# Altium schematic symbol library LPEDT_Components.SchLib: 80 symbols (part 2 of 4)
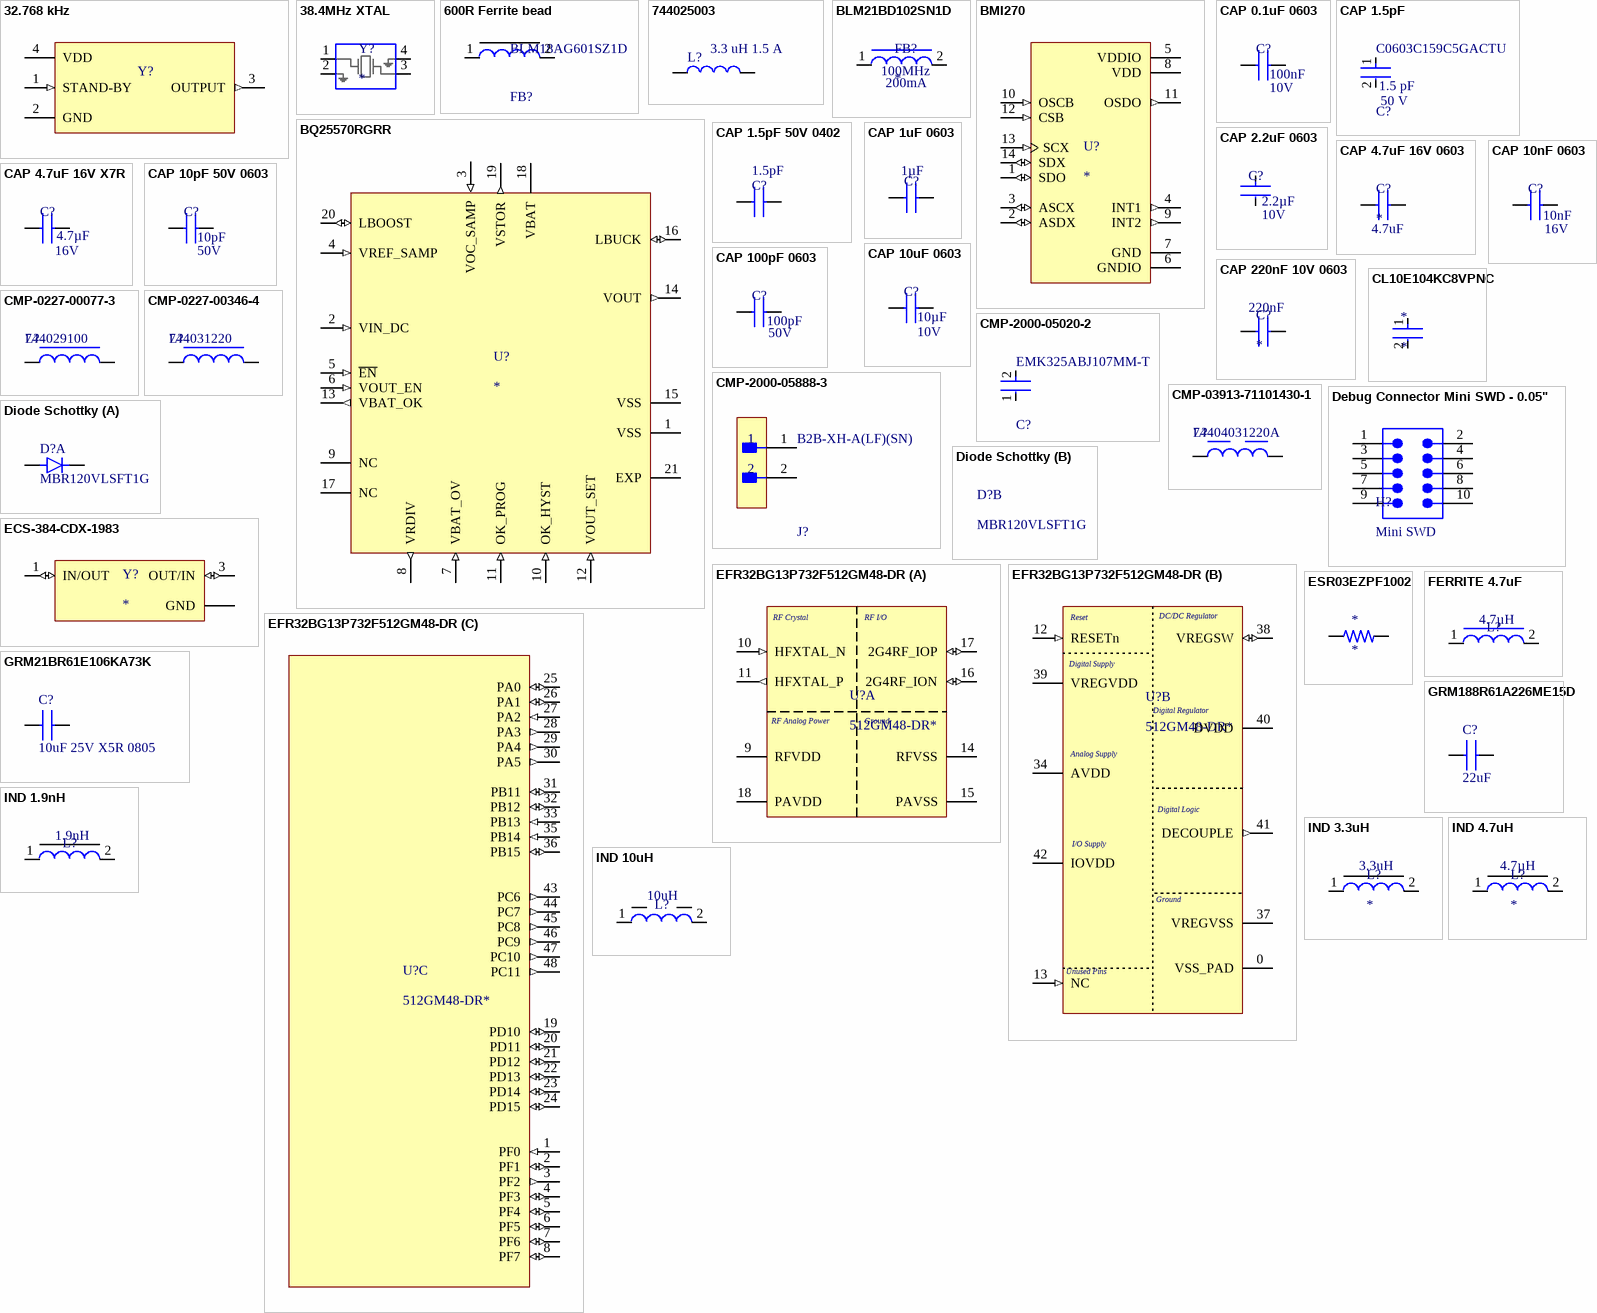
[diagram p3: symbols 32.768 kHz to IND 10uH]

## CAP 220nF 10V 0603
designator C?  value 220nF
0603 0.22 uF 10 V ±10% Tolerance X7R SMT Multilayer Ceramic Capacitor; Manufacturer: Murata; Manufacturer Part Number: GRM188R71A224KA01J; Manufacturer Lifecycle Status: NRND; Voltage Rating: 10V; Supplier: Arrow Electronics; Supplier Part Number: GRM188R71A224KA01J; RoHS: Compliant; Category: Ceramic Capacitors; Stock: 100000; Pricing: 1=0.0224, 10=0.022, 1000=0.022, 30000=0.022 (USD); Case/Package: 0603; Case Code (Imperial): 0603; Case Code (Metric): 1608; Depth: 800µm; Dielectric: X7R; Dielectric Material: Ceramic; Height: 800µm; Lead Free: Lead Free; Length: 1.6mm; Lifecycle Status: NRND; Material: Ceramic; Max Operating Temperature: 125°C; Min Operating Temperature: -55°C; Mounting Technology: Surface Mount; Number of Terminals: 2; Radiation Hardening: No; REACH SVHC: Yes; Schedule B: 8532240020, 8532240020|8532240020, 8532240020|8532240020|8532240020, 8532240020|8532240020|8532240020|8532240020; Termination: SMD/SMT; Thickness: 800µm; Tolerance: 10%; Voltage Rating (DC): 10V; Width: 800µm; ComponentLink1URL: https://datasheet.octopart.com:443/GRM188R71A224KA01J-Murata-datasheet-14401092.pdf?src-supplier=Future+Electronics; ComponentLink1Description: https://datasheet.octopart.com:443/GRM188R71A224KA01J-Murata-datasheet-14401092.pdf?src-supplier=Future+Electronics; ComponentLink2URL: https://datasheet.octopart.com:443/GRM188R71A224KA01J-Murata-datasheet-22122223.pdf?src-supplier=Future+Electronics; ComponentLink2Description: https://datasheet.octopart.com:443/GRM188R71A224KA01J-Murata-datasheet-22122223.pdf?src-supplier=Future+Electronics; ComponentLink3URL: https://datasheet.octopart.com:443/GRM188R71A224KA01J-Murata-datasheet-11801259.pdf?src-supplier=Future+Electronics; ComponentLink3Description: https://datasheet.octopart.com:443/GRM188R71A224KA01J-Murata-datasheet-11801259.pdf?src-supplier=Future+Electronics; ComponentLink4URL: https://datasheet.octopart.com:443/GRM188R71A224KA01J-Murata-datasheet-8330557.pdf?src-supplier=Future+Electronics; ComponentLink4Description: https://datasheet.octopart.com:443/GRM188R71A224KA01J-Murata-datasheet-8330557.pdf?src-supplier=Future+Electronics; ComponentLink5URL: https://datasheet.octopart.com:443/GRM188R71A224KA01J-Murata-datasheet-44107669.pdf?src-supplier=Future+Electronics; ComponentLink5Description: https://datasheet.octopart.com:443/GRM188R71A224KA01J-Murata-datasheet-44107669.pdf?src-supplier=Future+Electronics; ComponentLink6URL: https://datasheet.octopart.com:443/GRM188R71A224KA01J-Murata-datasheet-141274968.pdf?src-supplier=Ciiva; ComponentLink6Description: https://datasheet.octopart.com:443/GRM188R71A224KA01J-Murata-datasheet-141274968.pdf?src-supplier=Ciiva; ComponentLink7URL: https://datasheet.octopart.com:443/GRM188R71A224KA01J-Murata-datasheet-140705377.pdf?src-supplier=Ciiva; ComponentLink7Description: https://datasheet.octopart.com:443/GRM188R71A224KA01J-Murata-datasheet-140705377.pdf?src-supplier=Ciiva; ComponentLink8URL: https://datasheet.octopart.com:443/GRM188R71A224KA01J-Murata-datasheet-138742946.pdf?src-supplier=Ciiva; ComponentLink8Description: https://datasheet.octopart.com:443/GRM188R71A224KA01J-Murata-datasheet-138742946.pdf?src-supplier=Ciiva; ComponentLink9URL: https://datasheet.octopart.com/GRM188R71A224KA01J-Murata-datasheet-12515295.pdf; ComponentLink9Description: https://datasheet.octopart.com/GRM188R71A224KA01J-Murata-datasheet-12515295.pdf; ComponentLink10URL: https://datasheet.octopart.com/GRM188R71A224KA01J-Murata-datasheet-12510076.pdf; ComponentLink10Description: https://datasheet.octopart.com/GRM188R71A224KA01J-Murata-datasheet-12510076.pdf; ComponentLink11URL: https://datasheet.octopart.com/GRM188R71A224KA01J-Murata-datasheet-11978611.pdf; ComponentLink11Description: https://datasheet.octopart.com/GRM188R71A224KA01J-Murata-datasheet-11978611.pdf; ComponentLink12URL: https://datasheet.octopart.com/GRM188R71A224KA01J-Murata-datasheet-10025737.pdf; ComponentLink12Description: https://datasheet.octopart.com/GRM188R71A224KA01J-Murata-datasheet-10025737.pdf; ComponentLink13URL: https://datasheet.octopart.com/GRM188R71A224KA01J-Murata-datasheet-8819587.pdf; ComponentLink13Description: https://datasheet.octopart.com/GRM188R71A224KA01J-Murata-datasheet-8819587.pdf; ComponentLink14URL: http://sigma.octopart.com:80/reach_statement/Murata-company-16.pdf?src-supplier=Compliance+Statements; ComponentLink14Description: http://sigma.octopart.com:80/reach_statement/Murata-company-16.pdf?src-supplier=Compliance+Statements; Supplier 1: DigiKey; Supplier Part Number 1: 490-8282-1-ND
footprint Capacitor 0603 (Chip Capacitor, 2-Leads, Body 1.60x0.80mm, IPC Medium Density)
pins: 1, 2

## CL10E104KC8VPNC
designator *
Ceramic Capacitor, Multilayer, Ceramic, 100V, 10% +Tol, 10% -Tol, X8L, -40~+15% TC, 100nF, Surface Mount, 0603 inch; Manufacturer: Samsung Electro-Mechanics; Manufacturer Part Number: CL10E104KC8VPNC; Supplier: DigiKey; Supplier Part Number: 1276-CL10E104KC8VPNCCT-ND; RoHS: Compliant; Category: Ceramic Capacitors; Stock: 31004; Pricing: 1=0.25, 10=0.146, 50=0.1056, 100=0.0931, 500=0.07212, 1000=0.06732 (USD); Value: 100nF; Dielectric Material: Ceramic; Height: 800µm; Length: 1.6mm; Lifecycle Status: Production; Max Operating Temperature: 150°C; Min Operating Temperature: -55°C; Mounting Technology: Surface Mount; Number of Terminals: 2; REACH SVHC: Yes; Voltage Rating (DC): 100V; Width: 800µm; Supplier 1: DigiKey; Supplier Part Number 1: 1276-CL10E104KC8VPNCCT-ND
footprint Capacitor 0603 (Chip Capacitor, 2-Leads, Body 1.60x0.80mm, IPC Medium Density)
pins: 1, 2

## CMP-0227-00077-3
designator L?, comment 744029100
10 µH Shielded Drum Core, Wirewound Inductor 650 mA 470mOhm Max Nonstandard; NexarPartId: 8917062; Tolerance: 30%; Saturation Current: 500mA; Series Resistance: 300mΩ; Core Material: Ferrite; Resistance: 390mΩ; Max DC Current: 800mA; Inductance: 10µH; Self Resonant Frequency: 40MHz; Test Frequency: 100kHz; RMS Current (Irms): 650mA; Min Operating Temperature: -40°C; Mount: Surface Mount; Height - Seated (Max): 1.4986mm; Width: 2.78mm; Shielding: Shielded; Number of Pins: 2; Ambient Temperature Range High: 85°C; Lead Free: Lead Free; Case/Package: Nonstandard; Weight: 32.006612mg; REACH SVHC: Unknown; Depth: 2.8mm; Height: 1.35mm; Length: 2.78mm; RoHS: Compliant; Max Operating Temperature: 125°C; DC Resistance (DCR): 390mΩ; Inductance Tolerance: 30%; Composition: Wirewound; Current Rating: 650mA; Ambient Temperature Range Low: -40°C; Termination: SMD/SMT; Packaging: Cut Tape (CT); Supplier 1: Newark; Supplier Part Number 1: 08P2467
footprint WE-TPC_2813 (Power Inductor, SMD, 2-Leads, body 2.78x2.78mm)
pins: 1, 2

## CMP-0227-00346-4
designator L?, comment 744031220
22 µH Shielded Drum Core, Wirewound Inductor 510 mA 450mOhm Max Nonstandard; NexarPartId: 22866169; Series Resistance: 450mΩ; Self Resonant Frequency: 26MHz; Core Material: Ferrite; Current Rating: 510mA; Test Frequency: 100kHz; Tolerance: 30%; Saturation Current: 360mA; Inductance: 22µH; DC Resistance (DCR): 410mΩ; Width: 3.8mm; Ambient Temperature Range High: 95°C; Number of Pins: 2; Ambient Temperature Range Low: -40°C; Min Operating Temperature: -40°C; Packaging: Tape & Reel (TR); Height: 1.65mm; RoHS: Compliant; Composition: Wirewound; RMS Current (Irms): 510mA; Max Operating Temperature: 125°C; Inductance Tolerance: 30%; Length: 3.8mm; Supplier 1: DigiKey; Supplier Part Number 1: 732-1012-6-ND
footprint WE-TPC_3816 (Power Inductor, SMD, 2-Leads, body 3.8x3.8mm)
pins: 1, 2

## CMP-2000-05020-2
designator C?, comment EMK325ABJ107MM-T
CAP CER 100UF 16V X5R 1210; Manufacturer: Taiyo Yuden; Material: Ceramic; Temperature Coefficient: 15%; Tolerance: 20%; Ipc Land Pattern Name: CAPC320250X250; Package: EMK325A-M; Device Class L1: Passive Components; Height: 2.8mm; Device Class L2: Capacitors; Temperature Range Low: -55°C; RoHS: TRUE; Temperature Characteristic: X5R; Mouser Description: 1210 100 uF 16 V ±20% Tolerance X5R SMT Multilayer Ceramic Capacitor; ComponentLink2Description: Datasheet; Temperature: -55°C to +85°C; Device Class L3: Ceramic Capacitors; Capacitance: 100uF; Lead Free: Yes; Category: Cap; Octopart: https://octopart.com/emk325abj107mm-t-taiyo+yuden-20815747; Temperature Range High: +85°C; Automotive: No; Manufacturer Part Number: EMK325ABJ107MM-T; Value: 100uF; Digikey Description: CAP CER 100UF 16V X5R 1210; Voltage Rating: 16V; ComponentLink2URL: https://www.yuden.co.jp/productdata/catalog/mlcc01_e.pdf; Supplier 1: DigiKey; Supplier Part Number 1: 587-3152-2-ND
footprint FP-1206-L_3_2_0_3-W_1_6_0-IPC_A
pins: 1, 2

## CMP-2000-05888-3
designator J?, comment B2B-XH-A(LF)(SN)
CONN HEADER VERT 2POS 2.5MM; Current Rating: 3A; Voltage Rating: 250V; Number of Contacts: 2; Contact Resistance: 20mR; Wire/Cable Gauge: 22AWG; Insulation Resistance: 1GR; Connector Type: Male Pin; Packaging: Bulk; Contact Material: Brass; Lead Free: Lead Free; Orientation: Straight; Contact Plating: Tin; Max Current Rating: 3A; Termination: Solder; Fastening Type: Detent; Depth: 5.75mm; Housing Material: Polyamide; REACH SVHC: No SVHC; Series: XH; Voltage Rating (AC): 250V; Number of Positions: 2; Color: Natural; Contact Type: Male Pin; Max Voltage Rating (DC): 250V; Pitch: 2.5mm; Lead Pitch: 2.5mm; Mount: Through Hole; Max Operating Temperature: 85°C; Length: 7.4mm; Max Voltage Rating (AC): 250V; Min Operating Temperature: -25°C; Number of Rows: 1; Housing Color: White; Supplier 1: Mouser; Supplier Part Number 1: 306-B2BXHALFSNP
footprint FP-B2B-XH-A_LF_SN-MFG
pins: 1, 2

## CMP-03913-71101430-1
designator L?, comment 74404031220A
100mW Thick Film Resistors 75V ±5% 0Ω 0603 Chip Resistor - Surface Mount ROHS; NexarPartId: 71101430; Manufacturer: Yageo Group; Manufacturer Part Number: AF0603JR-070RL; RMS Current (Irms): 740mA; Self Resonant Frequency: 36MHz; Inductance: 22µH; DC Resistance (DCR): 420mΩ; Current Rating: 600mA; Inductance Tolerance: 20%; Saturation Current: 430mA; Shielding: Shielded; Test Frequency: 100kHz; RoHS: Compliant; Height - Seated (Max): 1.1938mm; Height: 1.2mm; REACH SVHC: Unknown; Min Operating Temperature: -40°C; Length: 3mm; Width: 3mm; Ambient Temperature Range Low: -40°C; Max Operating Temperature: 125°C; Mount: Surface Mount; Tolerance: 20%; Composition: Wirewound; Case/Package: Nonstandard; Ambient Temperature Range High: 85°C; Supplier: Avnet; Supplier Part Number: 49AK6954; Category: Chip SMD Resistors; Stock: 1554; Pricing: 1=0.104, 25=0.009, 50=0.008, 100=0.007 (USD); China RoHS: Non-Compliant; Features: Anti-Sulfur, Moisture Resistant; Lifecycle Status: Production; Max Power Dissipation: 100mW; Mounting Technology: Surface Mount; Number of Terminals: 2; Number of Terminations: 2; Packaging: Tape & Reel; Power Dissipation: 100mW; Power Rating: 100mW; Value: 0Ω; Voltage Rating: 75V; ComponentLink1URL: https://datasheet.octopart.com:443/AF0603JR-070RL-Yageo-Group-datasheet-182189395.pdf?src-supplier=IHS; ComponentLink1Description: https://datasheet.octopart.com:443/AF0603JR-070RL-Yageo-Group-datasheet-182189395.pdf?src-supplier=IHS; ComponentLink2URL: https://datasheet.octopart.com:443/AF0603JR-070RL-Yageo-datasheet-182189397.pdf?src-supplier=IHS; ComponentLink2Description: https://datasheet.octopart.com:443/AF0603JR-070RL-Yageo-datasheet-182189397.pdf?src-supplier=IHS; ComponentLink3URL: https://datasheet.octopart.com:443/AF0603JR-070RL-Yageo-datasheet-153645569.pdf?src-supplier=Upverter; ComponentLink3Description: https://datasheet.octopart.com:443/AF0603JR-070RL-Yageo-datasheet-153645569.pdf?src-supplier=Upverter; ComponentLink4URL: https://sigma.octopart.com:443/138820526/technical_drawing/Yageo-AF0603JR-070RL.pdf?src-supplier=Upverter; ComponentLink4Description: https://sigma.octopart.com:443/138820526/technical_drawing/Yageo-AF0603JR-070RL.pdf?src-supplier=Upverter; ComponentLink5URL: https://datasheet.octopart.com:443/AF0603JR-070RL-Yageo-Group-datasheet-183876366.pdf?src-supplier=TME; ComponentLink5Description: https://datasheet.octopart.com:443/AF0603JR-070RL-Yageo-Group-datasheet-183876366.pdf?src-supplier=TME; ComponentLink6URL: https://datasheet.octopart.com/AF0603JR-070RL-Yageo-datasheet-68296209.pdf; ComponentLink6Description: https://datasheet.octopart.com/AF0603JR-070RL-Yageo-datasheet-68296209.pdf; ComponentLink7URL: https://datasheet.octopart.com:443/AF0603JR-070RL-Yageo-datasheet-164730775.pdf?src-supplier=Future+Electronics; ComponentLink7Description: https://datasheet.octopart.com:443/AF0603JR-070RL-Yageo-datasheet-164730775.pdf?src-supplier=Future+Electronics; ComponentLink8URL: https://datasheet.octopart.com:443/AF0603JR-070RL-Yageo-datasheet-137315688.pdf?src-supplier=Future+Electronics; ComponentLink8Description: https://datasheet.octopart.com:443/AF0603JR-070RL-Yageo-datasheet-137315688.pdf?src-supplier=Future+Electronics; ComponentLink9URL: https://datasheet.octopart.com:443/AF0603JR-070RL-Yageo-datasheet-137481464.pdf?src-supplier=Future+Electronics; ComponentLink9Description: https://datasheet.octopart.com:443/AF0603JR-070RL-Yageo-datasheet-137481464.pdf?src-supplier=Future+Electronics; ComponentLink10URL: http://sigma.octopart.com:80/rohs_statement/Yageo-company-2.pdf?src-supplier=Compliance+Statements; ComponentLink10Description: http://sigma.octopart.com:80/rohs_statement/Yageo-company-2.pdf?src-supplier=Compliance+Statements; ComponentLink11URL: http://sigma.octopart.com:80/conflict_mineral_statement/Yageo-company-3.pdf?src-supplier=Compliance+Statements; ComponentLink11Description: http://sigma.octopart.com:80/conflict_mineral_statement/Yageo-company-3.pdf?src-supplier=Compliance+Statements; Supplier 1: DigiKey; Supplier Part Number 1: 732-9667-1-ND
footprint WE-LQS_3012 (SMD Power Inductor, 2-Leads, body 3x3mm)
pins: 1, 2

## Debug Connector Mini SWD - 0.05"
designator H?, comment Mini SWD
Mini SWD 0.05" Pitch Connector - 10 Pin SMT Box Header; Manufacturer: Adafruit Industries; Manufacturer Part Number: 4048; Supplier 1: Digi-Key; RoHS: No; Category: Connectors; Stock 1: 201; Pricing 1: 1=1.95000 (USD); ComponentLink1URL: https://media.digikey.com/pdf/Data%20Sheets/Adafruit%20PDFs/4048_Web.pdf?src-supplier=Digi-Key; ComponentLink1Description: https://media.digikey.com/pdf/Data%20Sheets/Adafruit%20PDFs/4048_Web.pdf?src-supplier=Digi-Key
footprint FTSH-105-01-XXX-DV-K
pins: 1, 2, 3, 4, 5, 6, 7, 8, 9, 10

## Diode Schottky
designator D?, comment MBR120VLSFT1G
Schottky Power Rectifier, 2-Pin SOD-123, Pb-Free, Tape and Reel; Manufacturer: On Semiconductor; IFSM Max (A): 45; Configuration: Single; PackageDescription: 2-Pin SOD, Body 1.65 x 2.7 mm; RoHS: TRUE; ComponentLink2URL: http://www.onsemi.cn/pub_link/Collateral/MBR120VLSFT1-D.PDF; Mounting Technology: Surface Mount; ComponentLink1Description: Manufacturer URL; DatasheetVersion: Rev. 2; ComponentLink3Description: Package Specification; Packing: Tape and Reel; ComponentLink2Description: Datasheet; ComponentLink1URL: http://www.onsemi.com/; PackageVersion: Rev. A; PackageReference: SOD-123FL-2-498-01; ComponentLink3URL: http://www.onsemi.cn/pub_link/Collateral/MBR120VLSFT1-D.PDF; PartNumber: MBR120VLSFT1G; Supplier 1: DigiKey; Supplier Part Number 1: MBR120VLSFT1GOSTR-ND
footprint ONSC-SOD-123FL-2-498-01_V (SOD, 2-Leads, Body 2.7x1.65mm)
part A pins: 1, 2

## ECS-384-CDX-1983
designator Y?
38.4 MHz XO (Standard) CMOS Oscillator Enable/Disable 4-SMD, No Lead; MP: ECS-384-CDX-1983; Package: None; Price: None; Value: *; Availability: Unavailable; Supplier 1: DigiKey; Supplier Part Number 1: 50-ECS-384-CDX-1983DKR-ND
footprint XTAL_ECS-384-CDX-1983
pins: 1 IN/OUT (io), 2 GND (power), 3 OUT/IN (io), 4 GND (power)

## EFR32BG13P732F512GM48-DR
designator U?, comment 512GM48-DR*
Blue Gecko QFN48 2.4 G 19 dB BLE/Proprietary 512 kB 64 kB(RAM) 31GPIO; Manufacturer: Silicon Labs; Manufacturer Part Number: EFR32BG13P732F512GM48-DR; Manufacturer Lifecycle Status: FULL PRODUCTION; Flash Memory Size: 512kB; Max Supply Voltage: 3.8V; Min Supply Voltage: 1.8V; Number of Digital IO: 31; Number of I2C Channels: 2; Number of SPI Channels: 3; Number of UART Channels: 8; Number of USART Channels: 4; Operating Supply Voltage: 3.3V; RAM Size: 64kB; Supplier: DigiKey; Supplier Part Number: 336-EFR32BG13P732F512GM48-DRCT-ND; RoHS: Compliant; Category: System on Chip (SoC); Stock: 8802; Pricing: 1=7.38, 10=6.396, 25=6.0548, 100=5.586, 250=5.30508, 500=5.10674, 1000=4.91994 (USD); Height - Seated (Max): 900µm; Length: 7mm; Lifecycle Status: Production; Max Operating Temperature: 85°C; Min Operating Temperature: -40°C; Number of GPIO: 31; Number of Terminals: 48; Terminal Pitch: 500µm; Width: 7mm; ComponentLink1URL: https://datasheet.octopart.com:443/EFR32BG13P732F512GM48-DR-Silicon-Labs-datasheet-180782262.pdf?src-supplier=IHS; ComponentLink1Description: https://datasheet.octopart.com:443/EFR32BG13P732F512GM48-DR-Silicon-Labs-datasheet-180782262.pdf?src-supplier=IHS; ComponentLink2URL: https://datasheet.octopart.com:443/EFR32BG13P732F512GM48-DR-Silicon-Labs-datasheet-150822224.pdf?src-supplier=Silicon+Labs; ComponentLink2Description: https://datasheet.octopart.com:443/EFR32BG13P732F512GM48-DR-Silicon-Labs-datasheet-150822224.pdf?src-supplier=Silicon+Labs; ComponentLink3URL: https://datasheet.octopart.com:443/EFR32BG13P732F512GM48-DR-Silicon-Labs-datasheet-142345357.pdf?src-supplier=Silicon+Labs+SCT; ComponentLink3Description: https://datasheet.octopart.com:443/EFR32BG13P732F512GM48-DR-Silicon-Labs-datasheet-142345357.pdf?src-supplier=Silicon+Labs+SCT; ComponentLink4URL: https://datasheet.octopart.com:443/EFR32BG13P732F512GM48-DR-Silicon-Labs-datasheet-150822225.pdf?src-supplier=Farnell; ComponentLink4Description: https://datasheet.octopart.com:443/EFR32BG13P732F512GM48-DR-Silicon-Labs-datasheet-150822225.pdf?src-supplier=Farnell; Supplier 1: DigiKey; Supplier Part Number 1: 336-EFR32BG13P732F512GM48-DRCT-ND
footprint QFN_48_7x7 (BLUE GECKO QFN48 2.4GHz 512KB 6)
part A pins: 9 RFVDD (power) "Radio power supply", 10 HFXTAL_N  (in) "High Frequency Crystal input pin.", 11 HFXTAL_P (out) "High Frequency Crystal output pin.", 14 RFVSS (power) "Radio Ground", 15 PAVSS (power) "Power Amplifier (PA) voltage regulator / VSS", 16 2G4RF_ION (io) "2.4 GHz Differential RF input/output, / negative path. This pin should be externally grounded.", 17 2G4RF_IOP (io) "2.4 GHz Differential RF input/output, / positive path.", 18 PAVDD (power) "Power Amplifier (PA) voltage regulator / VDD input"
part B pins: 0 VSS_PAD (power) "Ground", 12 RESETn (in) "Reset input, active low. This pin is internally / pulled up to AVDD. To apply an / external reset source to this pin, it is required / to only drive this pin low during / reset, and let the internal pull-up ensure / that reset is released.", 13 NC (in) "No Connect", 34 AVDD (power) "Analog power supply.", 37 VREGVSS (power) "Voltage regulator VSS", 38 VREGSW (io) "DCDC regulator switching node", 39 VREGVDD (power) "Voltage regulator VDD input", 40 DVDD (power) "Digital power supply.", 41 DECOUPLE (out) "Decouple output for on-chip voltage / regulator. An external decoupling capacitor / is required at this pin. This pin / should not be used to power any external / circuits.", 42 IOVDD (power) "Digital IO power supply."
part C pins: 1 PF0 (in) "GPIO", 2 PF1 (io) "GPIO", 3 PF2 (out) "GPIO", 4 PF3 (io) "GPIO", 5 PF4 (io) "GPIO", 6 PF5 (io) "GPIO", 7 PF6 (io) "GPIO", 8 PF7 (io) "GPIO", 19 PD10 (io) "GPIO", 20 PD11 (io) "GPIO", 21 PD12 (io) "GPIO", 22 PD13 (io) "GPIO", 23 PD14 (io) "GPIO", 24 PD15 (io) "GPIO", 25 PA0 (io) "GPIO", 26 PA1 (io) "GPIO", 27 PA2 (in) "GPIO", 28 PA3 (out) "GPIO", 29 PA4 (out) "GPIO", 30 PA5 (out) "GPIO", 31 PB11 (io) "GPIO", 32 PB12 (io) "GPIO", 33 PB13 (in) "GPIO", 35 PB14 (in) "GPIO", 36 PB15 (io) "GPIO", 43 PC6 (out) "GPIO", 44 PC7 (out) "GPIO", 45 PC8 (out) "GPIO", 46 PC9 (out) "GPIO", 47 PC10 (out) "GPIO", 48 PC11 (out) "GPIO"
part A text: RF Crystal; RF I/O; RF Analog Power; Ground
part B text: Reset; DC/DC Regulator; Digital Supply; Digital Regulator; Analog Supply; Digital Logic; I/O Supply; Ground; Unused Pins

## ESR03EZPF1002
designator *
Res Thick Film 0603 10K Ohm 1% 0.25W(1/4W) ±100ppm/C Epoxy Resin Pad SMD Automotive T/R; Manufacturer: ROHM; Manufacturer Part Number: ESR03EZPF1002; Max Power Dissipation: 250mW; Value: 10kΩ; Temperature Coefficient: 100ppm/°C; Voltage Rating (DC): 150V; Supplier: DigiKey; Supplier Part Number: RHM10KADCT-ND; RoHS: Compliant; Category: Chip SMD Resistors; Stock: 1713898; Pricing: 1=0.15, 10=0.075, 25=0.0584, 50=0.049, 100=0.0418, 250=0.03444, 500=0.03024, 1000=0.02693 (USD); Case/Package: 0603; Case Code (Imperial): 0603; Case Code (Metric): 1608; Composition: Thick Film; Features: Automotive AEC-Q200; Height: 450µm; Lead Free: Lead Free; Length: 1.6002mm; Lifecycle Status: Production; Max Operating Temperature: 155°C; Min Operating Temperature: -55°C; Mounting Technology: Surface Mount; Number of Terminals: 2; Number of Terminations: 2; Packaging: Cut Tape (CT); Power Dissipation: 250mW; Power Rating: 250mW; REACH SVHC: Yes; Tolerance: 1%; Width: 800µm; Working Voltage: 150V; ComponentLink1URL: https://datasheet.octopart.com:443/ESR03EZPF1002-ROHM-datasheet-182147623.pdf?src-supplier=IHS; ComponentLink1Description: https://datasheet.octopart.com:443/ESR03EZPF1002-ROHM-datasheet-182147623.pdf?src-supplier=IHS; ComponentLink2URL: https://datasheet.octopart.com:443/ESR03EZPF1002-Rohm-datasheet-138897445.pdf?src-supplier=Upverter; ComponentLink2Description: https://datasheet.octopart.com:443/ESR03EZPF1002-Rohm-datasheet-138897445.pdf?src-supplier=Upverter; ComponentLink3URL: https://datasheet.octopart.com:443/ESR03EZPF1002-Rohm-datasheet-112214108.pdf?src-supplier=Newark; ComponentLink3Description: https://datasheet.octopart.com:443/ESR03EZPF1002-Rohm-datasheet-112214108.pdf?src-supplier=Newark; ComponentLink4URL: https://datasheet.octopart.com:443/ESR03EZPF1002-Rohm-datasheet-98864137.pdf?src-supplier=Future+Electronics; ComponentLink4Description: https://datasheet.octopart.com:443/ESR03EZPF1002-Rohm-datasheet-98864137.pdf?src-supplier=Future+Electronics; ComponentLink5URL: https://datasheet.octopart.com:443/ESR03EZPF1002-Rohm-datasheet-79607656.pdf?src-supplier=Future+Electronics; ComponentLink5Description: https://datasheet.octopart.com:443/ESR03EZPF1002-Rohm-datasheet-79607656.pdf?src-supplier=Future+Electronics; ComponentLink6URL: https://datasheet.octopart.com:443/ESR03EZPF1002-Rohm-datasheet-13205105.pdf?src-supplier=Future+Electronics; ComponentLink6Description: https://datasheet.octopart.com:443/ESR03EZPF1002-Rohm-datasheet-13205105.pdf?src-supplier=Future+Electronics; ComponentLink7URL: https://datasheet.octopart.com:443/ESR03EZPF1002-Rohm-datasheet-12521351.pdf?src-supplier=Future+Electronics; ComponentLink7Description: https://datasheet.octopart.com:443/ESR03EZPF1002-Rohm-datasheet-12521351.pdf?src-supplier=Future+Electronics; Supplier 1: DigiKey; Supplier Part Number 1: RHM10KADDKR-ND
footprint RES_0603_1608X06
pins: 1, 2

## FERRITE 4.7uF
designator L?, comment value 4.7µH  (hidden comment: 74403100)
Power Choke Shielded Wirewound 4.7uH 30% 100KHz Ferrite 1.2A 0.105Ohm DCR T/R; Manufacturer: Wurth Elektronik; Manufacturer Part Number: 744031004; DC Resistance (DCR): 90mΩ; Saturation Current: 900mA; Self Resonant Frequency: 75MHz; ESR: 105mΩ; Supplier: DigiKey; Supplier Part Number: 732-1008-1-ND; RoHS: Compliant; Category: Fixed Inductors; Stock: 4923; Pricing: 1=1.53, 10=1.481, 50=1.296, 100=1.185, 500=1.044 (USD); Ambient Temperature Range High: 95°C; Ambient Temperature Range Low: -40°C; Case/Package: Nonstandard; Composition: Wirewound; Core Material: Ferrite; Current Rating: 1.2A; Depth: 3.8mm; Height: 1.65mm; Height - Seated (Max): 1.8034mm; Inductance Tolerance: 30%; Lead Free: Lead Free; Length: 3.8mm; Max DC Current: 1.2A; Max Operating Temperature: 125°C; Min Operating Temperature: -40°C; Mounting Technology: Surface Mount; Pins: 2; REACH SVHC: Unknown; RMS Current (Irms): 1.2A; Shielding: Shielded; Termination: SMD/SMT; Test Frequency: 100kHz; Tolerance: 30%; Weight: 102.993818mg; Width: 3.8mm; ComponentLink1URL: https://datasheet.octopart.com:443/744031004-Wurth-Elektronik-datasheet-168487860.pdf?src-supplier=Farnell; ComponentLink1Description: https://datasheet.octopart.com:443/744031004-Wurth-Elektronik-datasheet-168487860.pdf?src-supplier=Farnell; ComponentLink2URL: https://datasheet.octopart.com:443/744031004-W%C3%BCrth-Elektronik-datasheet-149526357.pdf?src-supplier=Farnell; ComponentLink2Description: https://datasheet.octopart.com:443/744031004-W%C3%BCrth-Elektronik-datasheet-149526357.pdf?src-supplier=Farnell; ComponentLink3URL: https://datasheet.octopart.com:443/744031004-W%C3%BCrth-Elektronik-Midcom-datasheet-8822755.pdf?src-supplier=Farnell; ComponentLink3Description: https://datasheet.octopart.com:443/744031004-W%C3%BCrth-Elektronik-Midcom-datasheet-8822755.pdf?src-supplier=Farnell; ComponentLink4URL: https://datasheet.octopart.com:443/744031004-W%C3%BCrth-Elektronik-Midcom-datasheet-5441008.pdf?src-supplier=Farnell; ComponentLink4Description: https://datasheet.octopart.com:443/744031004-W%C3%BCrth-Elektronik-Midcom-datasheet-5441008.pdf?src-supplier=Farnell; ComponentLink5URL: https://datasheet.octopart.com:443/744031004-W%C3%BCrth-Elektronik-datasheet-41342366.pdf?src-supplier=element14+APAC; ComponentLink5Description: https://datasheet.octopart.com:443/744031004-W%C3%BCrth-Elektronik-datasheet-41342366.pdf?src-supplier=element14+APAC; ComponentLink6URL: https://datasheet.octopart.com:443/744031004-W%C3%BCrth-Elektronik-datasheet-21228206.pdf?src-supplier=Future+Electronics; ComponentLink6Description: https://datasheet.octopart.com:443/744031004-W%C3%BCrth-Elektronik-datasheet-21228206.pdf?src-supplier=Future+Electronics; ComponentLink7URL: https://datasheet.octopart.com:443/744031004-W%C3%BCrth-Elektronik-datasheet-111088459.pdf?src-supplier=RS+(Formerly+Allied+Electronics); ComponentLink7Description: https://datasheet.octopart.com:443/744031004-W%C3%BCrth-Elektronik-datasheet-111088459.pdf?src-supplier=RS+(Formerly+Allied+Electronics); Supplier 1: Mouser; Supplier Part Number 1: 710-7440310047
footprint IND 22uH (1.6x4.3)
pins: 1, 2

## GRM21BR61E106KA73K
designator C?, comment 10uF 25V X5R 0805
Ceramic Capacitor, Ceramic, 25V, 10% +Tol, 10% -Tol, X5R, 15% TC, 10uF, Surface Mount, 0805; Manufacturer: Murata; Manufacturer Part Number: GRM21BR61E106KA73K; Manufacturer Lifecycle Status: IN PRODUCTION; Value: 10µF; Supplier: Avnet; Supplier Part Number: GRM21BR61E106KA73K; RoHS: Compliant; Category: Ceramic Capacitors; Stock: 54000; Pricing: 10000=0.01987, 20000=0.01911, 40000=0.01892, 60000=0.01882, 80000=0.01872 (USD); Case/Package: 0805; Dielectric: X5R; Dielectric Material: Ceramic; Height: 1.25mm; Length: 2mm; Lifecycle Status: Production; Material: Ceramic; Max Operating Temperature: 85°C; Min Operating Temperature: -55°C; Mounting Technology: Surface Mount; Number of Terminals: 2; Packaging: Tape & Reel (TR); REACH SVHC: Yes; Schedule B: 8532240020, 8532240020|8532240020, 8532240020|8532240020|8532240020, 8532240020|8532240020|8532240020|8532240020; Thickness: 1.25mm; Tolerance: 10%; Voltage Rating: 25V; Voltage Rating (DC): 25V; Weight: 9.49709mg; Width: 1.25mm; ComponentLink1URL: https://datasheet.octopart.com:443/GRM21BR61E106KA73K-Murata-datasheet-149523495.pdf?src-supplier=Newark; ComponentLink1Description: https://datasheet.octopart.com:443/GRM21BR61E106KA73K-Murata-datasheet-149523495.pdf?src-supplier=Newark; ComponentLink2URL: https://datasheet.octopart.com:443/GRM21BR61E106KA73K-Murata-datasheet-141278247.pdf?src-supplier=Geoflip; ComponentLink2Description: https://datasheet.octopart.com:443/GRM21BR61E106KA73K-Murata-datasheet-141278247.pdf?src-supplier=Geoflip; ComponentLink3URL: https://datasheet.octopart.com:443/GRM21BR61E106KA73K-Murata-datasheet-165579666.pdf?src-supplier=TME; ComponentLink3Description: https://datasheet.octopart.com:443/GRM21BR61E106KA73K-Murata-datasheet-165579666.pdf?src-supplier=TME; ComponentLink4URL: https://datasheet.octopart.com:443/GRM21BR61E106KA73K-Murata-datasheet-140707569.pdf?src-supplier=Ciiva; ComponentLink4Description: https://datasheet.octopart.com:443/GRM21BR61E106KA73K-Murata-datasheet-140707569.pdf?src-supplier=Ciiva; ComponentLink5URL: https://datasheet.octopart.com:443/GRM21BR61E106KA73K-Murata-datasheet-138744870.pdf?src-supplier=Ciiva; ComponentLink5Description: https://datasheet.octopart.com:443/GRM21BR61E106KA73K-Murata-datasheet-138744870.pdf?src-supplier=Ciiva; ComponentLink6URL: https://datasheet.octopart.com:443/GRM21BR61E106KA73K-Murata-datasheet-99353849.pdf?src-supplier=Future+Electronics; ComponentLink6Description: https://datasheet.octopart.com:443/GRM21BR61E106KA73K-Murata-datasheet-99353849.pdf?src-supplier=Future+Electronics; ComponentLink7URL: https://datasheet.octopart.com/GRM21BR61E106KA73K-Murata-datasheet-12515295.pdf; ComponentLink7Description: https://datasheet.octopart.com/GRM21BR61E106KA73K-Murata-datasheet-12515295.pdf; ComponentLink8URL: https://datasheet.octopart.com/GRM21BR61E106KA73K-Murata-datasheet-12510076.pdf; ComponentLink8Description: https://datasheet.octopart.com/GRM21BR61E106KA73K-Murata-datasheet-12510076.pdf; ComponentLink9URL: https://datasheet.octopart.com/GRM21BR61E106KA73K-Murata-datasheet-11978611.pdf; ComponentLink9Description: https://datasheet.octopart.com/GRM21BR61E106KA73K-Murata-datasheet-11978611.pdf; ComponentLink10URL: https://datasheet.octopart.com/GRM21BR61E106KA73K-Murata-datasheet-10025737.pdf; ComponentLink10Description: https://datasheet.octopart.com/GRM21BR61E106KA73K-Murata-datasheet-10025737.pdf; ComponentLink11URL: https://datasheet.octopart.com/GRM21BR61E106KA73K-Murata-datasheet-8819587.pdf; ComponentLink11Description: https://datasheet.octopart.com/GRM21BR61E106KA73K-Murata-datasheet-8819587.pdf; ComponentLink12URL: https://datasheet.octopart.com/GRM21BR61E106KA73K-Murata-datasheet-14397508.pdf; ComponentLink12Description: https://datasheet.octopart.com/GRM21BR61E106KA73K-Murata-datasheet-14397508.pdf; ComponentLink13URL: http://sigma.octopart.com:80/reach_statement/Murata-company-16.pdf?src-supplier=Compliance+Statements; ComponentLink13Description: http://sigma.octopart.com:80/reach_statement/Murata-company-16.pdf?src-supplier=Compliance+Statements; Supplier 1: DigiKey; Supplier Part Number 1: 490-16824-2-ND
footprint CAP_0805 (Chip Capacitor, 2-Leads, Body 2.00x1.23mm, IPC Medium Density)
pins: 1, 2

## GRM188R61A226ME15D
designator C?, comment 22uF
CAP CER 22UF 10V X5R 0603; Manufacturer: Murata; Manufacturer Part Number: GRM188R61A226ME15D; Voltage Rating DC: 10 VDC; Tolerance: 20 %; Brand: Murata Electronics; Type: Voltage and Temperature Derating Recommended Product; Unit Weight: 0.000222 oz; Supplier 1: Digi-Key; Supplier Part Number 1: 490-10476-1-ND; Stock 1: 849458; Pricing 1: 1=0.33, 10=0.226, 50=0.1506, 100=0.1279, 500=0.0903, 1000=0.079 (USD); Product Category: Multilayer Ceramic Capacitors MLCC - SMD/SMT; RoHS: True; Capacitance: 22 uF; Dielectric: X5R; Case Code - in: 0603; Case Code - mm: 1608; Height: 0.8 mm; Maximum Operating Temperature: + 85 C; Minimum Operating Temperature: - 55 C; Product: General Type MLCCs; Series: GRM; Packaging: Reel; Length: 1.6 mm; Package / Case: 0603 (1608 metric); Factory Pack Quantity: 4000; Termination Style: SMD/SMT; Width: 0.8 mm; ComponentLink1URL: http://www.farnell.com/datasheets/2047978.pdf?src-supplier=Element14; ComponentLink1Description: http://www.farnell.com/datasheets/2047978.pdf?src-supplier=Element14
footprint Capacitor 0603 (Chip Capacitor, 2-Leads, Body 1.60x0.80mm, IPC Medium Density)
pins: 1, 2

## IND 1.9nH
designator L?  value 1.9nH  (hidden comment: *)
Inductor, 1.9Nh, 8Ghz, 0402 Rohs Compliant: Yes |Murata LQG15WZ1N9S02D; Manufacturer: Murata; Manufacturer Lifecycle Status: IN PRODUCTION; Core Material: Air; Current Rating: 1A; DC Resistance (DCR): 50mΩ; Number of Circuits: 1; Q Factor: 23; Shielding: No; Test Frequency: 250MHz; Tolerance: 15.79%; Supplier: Newark; Supplier Part Number: 24AJ0906; Manufacturer Part Number: LQG15WZ1N9S02D; RoHS: Compliant; Category: Fixed Inductors; Stock: 3275; Pricing: 10=0.078, 25=0.069, 50=0.067, 100=0.065, 250=0.057, 500=0.056, 1000=0.054 (USD); Case/Package: 0402; Height: 500µm; Lifecycle Status: Production; Max Current Rating: 1A; Max Operating Temperature: 125°C; Min Operating Temperature: -55°C; Number of Terminals: 2; REACH SVHC: Yes; RMS Current (Irms): 1A; Self Resonant Frequency: 8GHz; ESR: 50mΩ; Width: 600µm; ComponentLink1URL: https://datasheet.octopart.com:443/LQG15WZ1N9S02D-Murata-datasheet-150573551.pdf?src-supplier=Newark; ComponentLink1Description: https://datasheet.octopart.com:443/LQG15WZ1N9S02D-Murata-datasheet-150573551.pdf?src-supplier=Newark; ComponentLink2URL: https://datasheet.octopart.com:443/LQG15WZ1N9S02D-Murata-datasheet-141286638.pdf?src-supplier=Ciiva; ComponentLink2Description: https://datasheet.octopart.com:443/LQG15WZ1N9S02D-Murata-datasheet-141286638.pdf?src-supplier=Ciiva; ComponentLink3URL: https://datasheet.octopart.com:443/LQG15WZ1N9S02D-Murata-datasheet-140712736.pdf?src-supplier=Ciiva; ComponentLink3Description: https://datasheet.octopart.com:443/LQG15WZ1N9S02D-Murata-datasheet-140712736.pdf?src-supplier=Ciiva; ComponentLink4URL: https://datasheet.octopart.com:443/LQG15WZ1N9S02D-Murata-datasheet-138753858.pdf?src-supplier=Ciiva; ComponentLink4Description: https://datasheet.octopart.com:443/LQG15WZ1N9S02D-Murata-datasheet-138753858.pdf?src-supplier=Ciiva; ComponentLink5URL: https://datasheet.octopart.com:443/LQG15WZ1N9S02D-Murata-datasheet-145449678.pdf?src-supplier=Geoflip; ComponentLink5Description: https://datasheet.octopart.com:443/LQG15WZ1N9S02D-Murata-datasheet-145449678.pdf?src-supplier=Geoflip; ComponentLink6URL: http://sigma.octopart.com:80/reach_statement/Murata-company-16.pdf?src-supplier=Compliance+Statements; ComponentLink6Description: http://sigma.octopart.com:80/reach_statement/Murata-company-16.pdf?src-supplier=Compliance+Statements; Supplier 1: DigiKey; Supplier Part Number 1: 490-LQG15WZ1N9S02DCT-ND
footprint Ferrite 0402
pins: 1, 2

## IND 3.3uH
designator L?  value 3.3uH
General Purpose Inductor, 3.3uH, 20%, 1 Element, Ferrite-Core, SMD, 1111; Manufacturer: Wurth Electronics; Manufacturer Part Number: 744025003; Channels: 1; Case/Size Code: 1111; DC Resistance (DCR): 101mR; Inductor Application: POWER INDUCTOR; Max Current Rating: 1.5A; Self Resonant Frequency: 100MHz; Shape/Size Description: RECTANGULAR PACKAGE; Shielding: Shielded; Test Frequency: 100kHz; Package Height: 2.8mm; Supplier: Digikey; Supplier Part Number: 732-2614-1-ND; RoHS: Yes; Category: Fixed Inductors; Stock: 3837; Pricing: 1=1.64, 10=1.578, 50=1.45, 100=1.205, 250=1.088 (USD); Pins: 2; Terminal Finish: Copper; Core Material: Ferrite; Min Operating Temperature: -40°C; Max Operating Temperature: 125°C; Tolerance: 20%; JESD-609 Code: e2; Package Style: SMTMeter; Surface Mount: Yes; Construction: Chip; Inductor Type: GENERAL PURPOSE INDUCTOR; Packaging: Tape and Reel; Terminal Placement: Dual Ended; Termination: Wraparound; Package Length: 2.8mm; Package Width: 2.8mm; Reach SVHC Compliant: Yes; RoHS Compliant: Yes; ComponentLink1URL: https://datasheet.ciiva.com:443/pdfs/VipMasterIC/IC/MIDC/MIDC-S-A0002801266/MIDC-S-A0002801266-1.pdf?src-supplier=IHS+Markit; ComponentLink1Description: https://datasheet.ciiva.com:443/pdfs/VipMasterIC/IC/MIDC/MIDC-S-A0002801266/MIDC-S-A0002801266-1.pdf?src-supplier=IHS+Markit; ComponentLink2URL: https://datasheet.ciiva.com/1060/744025003-1060566.pdf?src-supplier=Digikey; ComponentLink2Description: https://datasheet.ciiva.com/1060/744025003-1060566.pdf?src-supplier=Digikey; ComponentLink3URL: https://datasheet.ciiva.com/4954/744025003-88791-4954796.pdf?src-supplier=Mouser; ComponentLink3Description: https://datasheet.ciiva.com/4954/744025003-88791-4954796.pdf?src-supplier=Mouser; ComponentLink4URL: https://datasheet.ciiva.com/11803/0900766b80f886b5-11803594.pdf?src-supplier=Rs; ComponentLink4Description: https://datasheet.ciiva.com/11803/0900766b80f886b5-11803594.pdf?src-supplier=Rs; ComponentLink5URL: https://datasheet.ciiva.com/1060/744025003-1060567.pdf?src-supplier=Digikey; ComponentLink5Description: https://datasheet.ciiva.com/1060/744025003-1060567.pdf?src-supplier=Digikey; ComponentLink6URL: https://datasheet.ciiva.com/1060/744025003-1060568.pdf?src-supplier=Digikey; ComponentLink6Description: https://datasheet.ciiva.com/1060/744025003-1060568.pdf?src-supplier=Digikey; ComponentLink7URL: https://datasheet.ciiva.com/14123/744025003-eng-tds-14123829.pdf?src-supplier=Distrelec; ComponentLink7Description: https://datasheet.ciiva.com/14123/744025003-eng-tds-14123829.pdf?src-supplier=Distrelec; Supplier 1: DigiKey; Supplier Part Number 1: 732-2614-1-ND
footprint IND MLCC 1x3mm (2.2 µH Shielded Drum Core, Wirewound Inductor 1.8 A 66mOhm Max Nonstandard)
pins: 1, 2

## IND 4.7uH
designator L?  value 4.7µH
Inductor Power Shielded Multi-Layer 4.7uH 20% 2MHz Ferrite 0.12A 0.65Ohm DCR 0603 T/R; Manufacturer: TDK; Manufacturer Part Number: MLZ1608M4R7WT000; Manufacturer Lifecycle Status: PRODUCTION; Current Rating: 350mA; DC Resistance (DCR): 650mΩ; Number of Circuits: 1; Saturation Current: 120mA; Self Resonant Frequency: 80MHz; Shielding: Yes; Supplier: Avnet; Supplier Part Number: 46W4780; RoHS: Compliant; Category: Fixed Inductors; Stock: 50; Pricing: 1=0.063, 30=0.058, 50=0.054, 100=0.05 (USD); Case/Package: 0603; Case Code (Imperial): 0603; Case Code (Metric): 1608; Core Material: Ferrite; Height: 800µm; Height - Seated (Max): 939.8µm; Length: 1.6mm; Lifecycle Status: Production; Max Current Rating: 350mA; Max Length: 1.75mm; Max Operating Temperature: 125°C; Max Width: 950µm; Min Length: 1.45mm; Min Operating Temperature: -55°C; Min Width: 650µm; Mounting Technology: Surface Mount; Number of Terminals: 2; Packaging: Tape & Reel (TR); REACH SVHC: Yes; RMS Current (Irms): 350mA; Schedule B: 8504500000, 8504500000|8504500000|8504500000|8504500000|8504500000; ESR: 650mΩ; Test Frequency: 2MHz; Tolerance: 20%; Width: 800µm; ComponentLink1URL: https://datasheet.octopart.com:443/MLZ1608M4R7WT000-TDK-datasheet-155327068.pdf?src-supplier=ODG+(Origin+Data+Global); ComponentLink1Description: https://datasheet.octopart.com:443/MLZ1608M4R7WT000-TDK-datasheet-155327068.pdf?src-supplier=ODG+(Origin+Data+Global); ComponentLink2URL: https://datasheet.octopart.com:443/MLZ1608M4R7WT000-TDK-datasheet-170576133.pdf?src-supplier=Newark; ComponentLink2Description: https://datasheet.octopart.com:443/MLZ1608M4R7WT000-TDK-datasheet-170576133.pdf?src-supplier=Newark; ComponentLink3URL: https://datasheet.octopart.com:443/MLZ1608M4R7WT000-TDK-datasheet-12356712.pdf?src-supplier=Newark; ComponentLink3Description: https://datasheet.octopart.com:443/MLZ1608M4R7WT000-TDK-datasheet-12356712.pdf?src-supplier=Newark; ComponentLink4URL: https://datasheet.octopart.com:443/MLZ1608M4R7WT000-TDK-datasheet-136874818.pdf?src-supplier=TME; ComponentLink4Description: https://datasheet.octopart.com:443/MLZ1608M4R7WT000-TDK-datasheet-136874818.pdf?src-supplier=TME; ComponentLink5URL: https://datasheet.octopart.com:443/MLZ1608M4R7WT000-TDK-datasheet-62316133.pdf?src-supplier=Future+Electronics; ComponentLink5Description: https://datasheet.octopart.com:443/MLZ1608M4R7WT000-TDK-datasheet-62316133.pdf?src-supplier=Future+Electronics; Supplier 1: DigiKey; Supplier Part Number 1: 445-6390-1-ND
footprint Capacitor 0603 (Chip Capacitor, 2-Leads, Body 1.60x0.80mm, IPC Medium Density)
pins: 1, 2

## IND 10uH
designator L?  value 10uH  (hidden comment: *)
General Purpose Inductor, 10uH, 30%, 1 Element, Ferrite-Core, SMD, 1111; Manufacturer: Wurth Electronics; Manufacturer Part Number: 744029100; Case/Size Code: 1111; DC Resistance (DCR): 470mR; Inductor Application: POWER INDUCTOR; Channels: 1; Max Current Rating: 750mA; Self Resonant Frequency: 40MHz; Shape/Size Description: RECTANGULAR PACKAGE; Shielding: Unshielded; Test Frequency: 100kHz; Package Height: 1.35mm; Package Length: 2.8mm; Supplier: Digikey; Supplier Part Number: 732-1091-1-ND; RoHS: Yes; Category: Fixed Inductors; Stock: 28863; Pricing: 1=1.5, 10=1.36, 50=1.18, 100=1.11, 500=1.02 (USD); Pins: 2; Core Material: Ferrite; Terminal Finish: Tin; Min Operating Temperature: -40°C; Max Operating Temperature: 125°C; Tolerance: 30%; Construction: Chip; Inductor Type: GENERAL PURPOSE INDUCTOR; Package Style: SMTMeter; Packaging: Tape and Reel; Surface Mount: Yes; Terminal Placement: Dual Ended; Termination: One Surface; JESD-609 Code: e3; Package Width: 2.8mm; Reach SVHC Compliant: Yes; RoHS Compliant: Yes; ComponentLink1URL: https://datasheet.ciiva.com:443/pdfs/VipMasterIC/IC/MIDC/MIDC-S-A0002801410/MIDC-S-A0002801335-1.pdf?src-supplier=IHS+Markit; ComponentLink1Description: https://datasheet.ciiva.com:443/pdfs/VipMasterIC/IC/MIDC/MIDC-S-A0002801410/MIDC-S-A0002801335-1.pdf?src-supplier=IHS+Markit; ComponentLink2URL: https://datasheet.ciiva.com/6700/744029100-6700264.pdf?src-supplier=Digikey; ComponentLink2Description: https://datasheet.ciiva.com/6700/744029100-6700264.pdf?src-supplier=Digikey; ComponentLink3URL: https://datasheet.ciiva.com/5975/69360-5975061.pdf?src-supplier=Farnell; ComponentLink3Description: https://datasheet.ciiva.com/5975/69360-5975061.pdf?src-supplier=Farnell; ComponentLink4URL: https://datasheet.ciiva.com/11802/0900766b80d7f1cc-11802020.pdf?src-supplier=Rs; ComponentLink4Description: https://datasheet.ciiva.com/11802/0900766b80d7f1cc-11802020.pdf?src-supplier=Rs; ComponentLink5URL: https://datasheet.ciiva.com/4961/744029100-81254-4961409.pdf?src-supplier=Mouser; ComponentLink5Description: https://datasheet.ciiva.com/4961/744029100-81254-4961409.pdf?src-supplier=Mouser; ComponentLink6URL: https://datasheet.ciiva.com/6700/744029100-6700266.pdf?src-supplier=Digikey; ComponentLink6Description: https://datasheet.ciiva.com/6700/744029100-6700266.pdf?src-supplier=Digikey; ComponentLink7URL: https://datasheet.ciiva.com/7892/69360-7892549.pdf?src-supplier=Element14; ComponentLink7Description: https://datasheet.ciiva.com/7892/69360-7892549.pdf?src-supplier=Element14; ComponentLink8URL: https://datasheet.ciiva.com/22702/69360-22702631.pdf?src-supplier=Element14; ComponentLink8Description: https://datasheet.ciiva.com/22702/69360-22702631.pdf?src-supplier=Element14; Supplier 1: DigiKey; Supplier Part Number 1: 732-1091-1-ND
footprint IND 10uH (1x3.2)
pins: 1, 2

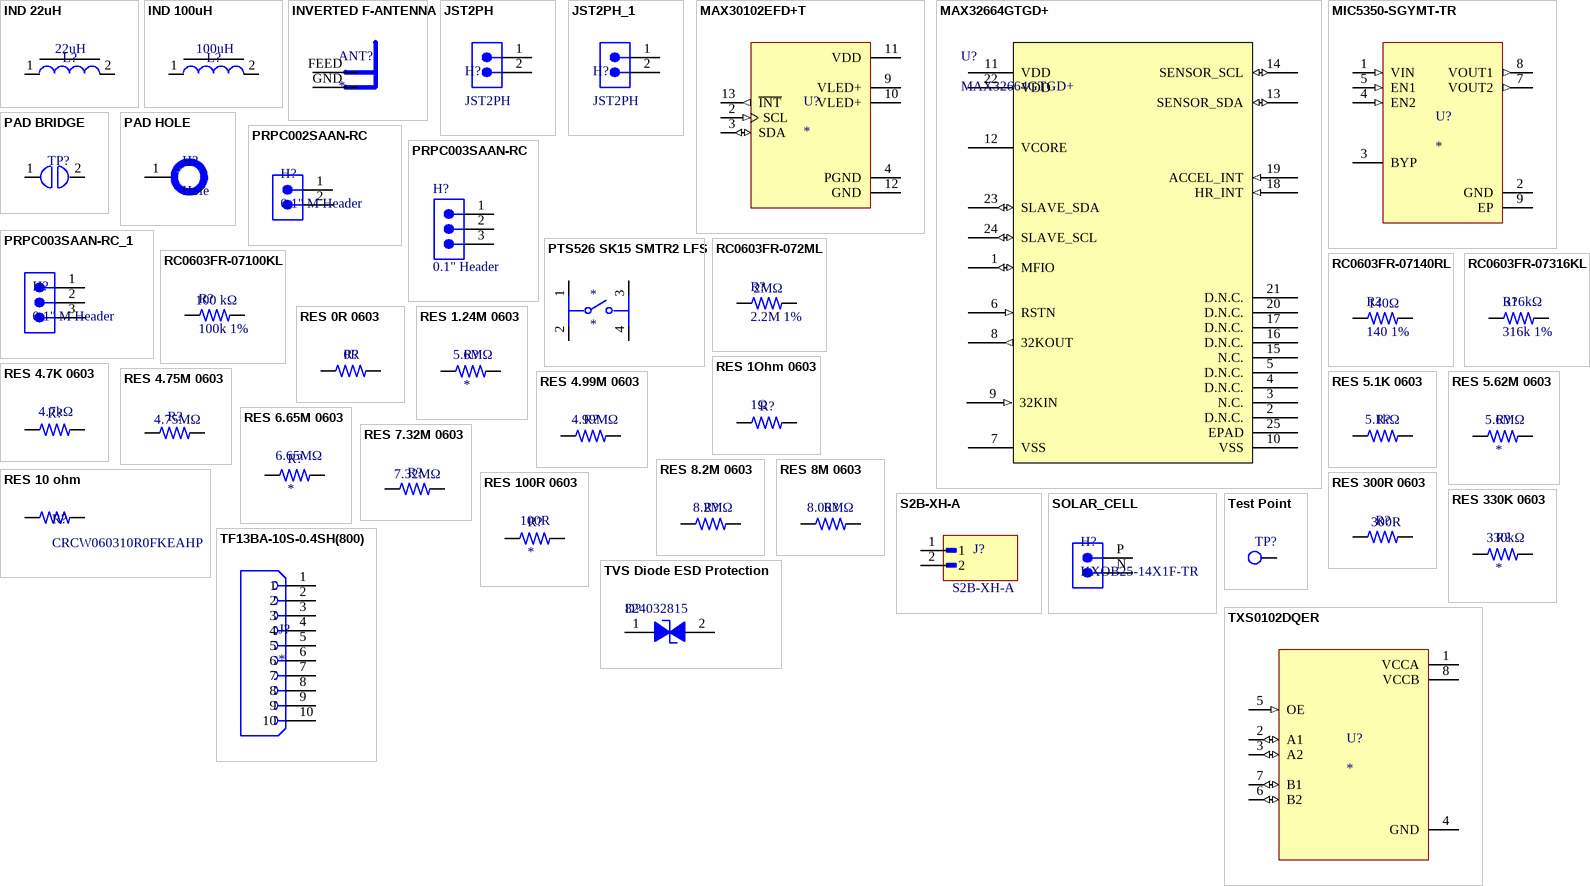
[diagram p1: symbols IND 22uH to TXS0102DQER]

## IND 22uH
designator L?  value 22uH  (hidden comment: *)
General Purpose Inductor, 22uH, 30%, 1 Element, Ferrite-Core, SMD, 1515; Manufacturer: Wurth Electronics; Manufacturer Part Number: 744031220; Case/Size Code: 1515; DC Resistance (DCR): 450mR; Inductor Application: POWER INDUCTOR; Channels: 1; Max Current Rating: 510mA; Shape/Size Description: RECTANGULAR PACKAGE; Shielding: Unshielded; Test Frequency: 100kHz; Self Resonant Frequency: 26MHz; Package Height: 1.65mm; Package Length: 3.8mm; Supplier: Digikey; Supplier Part Number: 732-1012-1-ND; RoHS: Yes; Category: Fixed Inductors; Stock: 7582; Pricing: 1=1.52, 10=1.481, 50=1.296, 100=1.185, 500=1.044, 1000=0.821, 2000=0.735 (USD); Pins: 2; Terminal Finish: Tin; Core Material: Ferrite; Min Operating Temperature: -40°C; Max Operating Temperature: 115°C; Tolerance: 30%; JESD-609 Code: e3; Construction: Chip; Inductor Type: GENERAL PURPOSE INDUCTOR; Package Style: SMTMeter; Packaging: Tape and Reel; Surface Mount: Yes; Terminal Placement: Dual Ended; Termination: One Surface; Package Width: 3.8mm; Reach SVHC Compliant: Yes; RoHS Compliant: Yes; ComponentLink1URL: https://datasheet.ciiva.com:443/pdfs/VipMasterIC/IC/MIDC/MIDC-S-A0002802410/MIDC-S-A0002802381-1.pdf?src-supplier=IHS+Markit; ComponentLink1Description: https://datasheet.ciiva.com:443/pdfs/VipMasterIC/IC/MIDC/MIDC-S-A0002802410/MIDC-S-A0002802381-1.pdf?src-supplier=IHS+Markit; ComponentLink2URL: https://datasheet.ciiva.com/4961/744031220-79613-4961173.pdf?src-supplier=Mouser; ComponentLink2Description: https://datasheet.ciiva.com/4961/744031220-79613-4961173.pdf?src-supplier=Mouser; ComponentLink3URL: https://datasheet.ciiva.com/11800/0900766b8079f7b9-11800353.pdf?src-supplier=Rs; ComponentLink3Description: https://datasheet.ciiva.com/11800/0900766b8079f7b9-11800353.pdf?src-supplier=Rs; ComponentLink4URL: https://datasheet.ciiva.com/7210/744031220-7210946.pdf?src-supplier=Newark; ComponentLink4Description: https://datasheet.ciiva.com/7210/744031220-7210946.pdf?src-supplier=Newark; ComponentLink5URL: https://datasheet.ciiva.com/1058/744031220-1058566.pdf?src-supplier=Digikey; ComponentLink5Description: https://datasheet.ciiva.com/1058/744031220-1058566.pdf?src-supplier=Digikey; ComponentLink6URL: https://datasheet.ciiva.com/1058/744031220-1058567.pdf?src-supplier=Digikey; ComponentLink6Description: https://datasheet.ciiva.com/1058/744031220-1058567.pdf?src-supplier=Digikey; ComponentLink7URL: https://datasheet.ciiva.com/14123/lp744031220-data-de-14123802.pdf?src-supplier=Distrelec; ComponentLink7Description: https://datasheet.ciiva.com/14123/lp744031220-data-de-14123802.pdf?src-supplier=Distrelec; ComponentLink8URL: https://datasheet.ciiva.com/7691/744031220-7691543.pdf?src-supplier=Element14; ComponentLink8Description: https://datasheet.ciiva.com/7691/744031220-7691543.pdf?src-supplier=Element14; Supplier 1: DigiKey; Supplier Part Number 1: 732-1012-1-ND
footprint IND 22uH (1.6x4.3)
pins: 1, 2

## IND 100uH
designator L?  Inductance-Nom (L): 100uH  (hidden comment: *)
General Purpose Inductor, 100uH, 20%, 1 Element, Ferrite-Core, SMD, 4838; Manufacturer: Wurth Electronics; Manufacturer Part Number: 74408943101; Case/Size Code: 4838; DC Resistance (DCR): 850mR; Inductor Application: RF INDUCTOR; Channels: 1; Max Current Rating: 520mA; Self Resonant Frequency: 7.8MHz; Shape/Size Description: RECTANGULAR PACKAGE; Shielding: Unshielded; Test Frequency: 100kHz; Package Height: 3.8mm; Package Length: 4.8mm; Supplier: Digikey; Supplier Part Number: 732-3038-1-ND; RoHS: Yes; Category: Fixed Inductors; Stock: 15178; Pricing: 1=2.23, 10=2.192, 50=2.11, 100=2.03, 250=1.867 (USD); Pins: 2; Core Material: Ferrite; Terminal Finish: Copper; Min Operating Temperature: -40°C; Max Operating Temperature: 125°C; Tolerance: 20%; Construction: Chip; Inductor Type: GENERAL PURPOSE INDUCTOR; Package Style: SMTMeter; Packaging: Tape and Reel; Surface Mount: Yes; Terminal Placement: Dual Ended; Termination: Wraparound; JESD-609 Code: e1; Package Width: 4.8mm; Reach SVHC Compliant: Yes; RoHS Compliant: Yes; ComponentLink1URL: https://datasheet.ciiva.com:443/pdfs/VipMasterIC/IC/MIDC/MIDC-S-A0006909500/MIDC-S-A0006909303-1.pdf?src-supplier=IHS+Markit; ComponentLink1Description: https://datasheet.ciiva.com:443/pdfs/VipMasterIC/IC/MIDC/MIDC-S-A0006909500/MIDC-S-A0006909303-1.pdf?src-supplier=IHS+Markit; ComponentLink2URL: https://datasheet.ciiva.com/6048/1735541-6048456.pdf?src-supplier=Farnell; ComponentLink2Description: https://datasheet.ciiva.com/6048/1735541-6048456.pdf?src-supplier=Farnell; ComponentLink3URL: https://datasheet.ciiva.com/7354/74408943101-7354353.pdf?src-supplier=Newark; ComponentLink3Description: https://datasheet.ciiva.com/7354/74408943101-7354353.pdf?src-supplier=Newark; ComponentLink4URL: https://datasheet.ciiva.com/11798/0900766b8103b54d-11798891.pdf?src-supplier=Rs; ComponentLink4Description: https://datasheet.ciiva.com/11798/0900766b8103b54d-11798891.pdf?src-supplier=Rs; ComponentLink5URL: https://datasheet.ciiva.com/13319/74408943101-23701-13319529.pdf?src-supplier=Mouser; ComponentLink5Description: https://datasheet.ciiva.com/13319/74408943101-23701-13319529.pdf?src-supplier=Mouser; ComponentLink6URL: https://datasheet.ciiva.com/6700/74408943101-6700250.pdf?src-supplier=Digikey; ComponentLink6Description: https://datasheet.ciiva.com/6700/74408943101-6700250.pdf?src-supplier=Digikey; ComponentLink7URL: https://datasheet.ciiva.com/6700/74408943101-6700252.pdf?src-supplier=Digikey; ComponentLink7Description: https://datasheet.ciiva.com/6700/74408943101-6700252.pdf?src-supplier=Digikey; ComponentLink8URL: https://datasheet.ciiva.com/6700/74408943101-6700253.pdf?src-supplier=Digikey; ComponentLink8Description: https://datasheet.ciiva.com/6700/74408943101-6700253.pdf?src-supplier=Digikey; Supplier 1: DigiKey; Supplier Part Number 1: 732-3038-1-ND
footprint IND MLCC 1x3mm (2.2 µH Shielded Drum Core, Wirewound Inductor 1.8 A 66mOhm Max Nonstandard)
pins: 1, 2

## INVERTED F-ANTENNA
designator ANT?  (net tie, no BOM)
footprint F_ANTENNA
pins: FEED, GND (power)

## JST2PH
designator H?
Connector Header Through Hole 2 position 0.079" (2.00mm); Manufacturer: JST; Manufacturer Part Number: B2B-PH-K-S; Supplier: Digi-Key; Supplier Part Number: 455-1704-ND; RoHS: Yes; Category: Connectors; Stock: 1077617; Pricing: 1=0.19, 10=0.147, 100=0.1088, 500=0.09006, 1000=0.0788, 5000=0.06754, 10000=0.06567 (USD); ComponentLink1URL: https://datasheet.ciiva.com/6905/phseries-6905929.pdf?src-supplier=Digi-Key; ComponentLink1Description: https://datasheet.ciiva.com/6905/phseries-6905929.pdf?src-supplier=Digi-Key; Supplier 1: DigiKey; Supplier Part Number 1: 455-1704-ND
footprint JST_B2B-PH-K-S(LF)(SN)
pins: 1, 2

## JST2PH_1
designator H?, comment JST2PH
Connector Header Through Hole 2 position 0.079" (2.00mm); Manufacturer: JST; Manufacturer Part Number: B2B-PH-K-S; Supplier: Digi-Key; Supplier Part Number: 455-1704-ND; RoHS: Yes; Category: Connectors; Stock: 1077617; Pricing: 1=0.19, 10=0.147, 100=0.1088, 500=0.09006, 1000=0.0788, 5000=0.06754, 10000=0.06567 (USD); ComponentLink1URL: https://datasheet.ciiva.com/6905/phseries-6905929.pdf?src-supplier=Digi-Key; ComponentLink1Description: https://datasheet.ciiva.com/6905/phseries-6905929.pdf?src-supplier=Digi-Key; Supplier 1: DigiKey; Supplier Part Number 1: 455-1704-ND
footprint JST_B2B-PH-K-S(LF)(SN)
pins: 1, 2